# Altium schematic symbol library CMW_PART.SchLib: 1 symbol
Pins are listed as number, name and electrical type; pins without a type are passive.

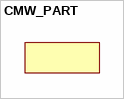
[diagram p0: symbol CMW_PART]

## CMW_PART
designator CMW_PART?